# Altium integrated library Analog Devices Data Converters Digital-to-Analog Converters.IntLib: 2231 symbols (part 131 of 181)
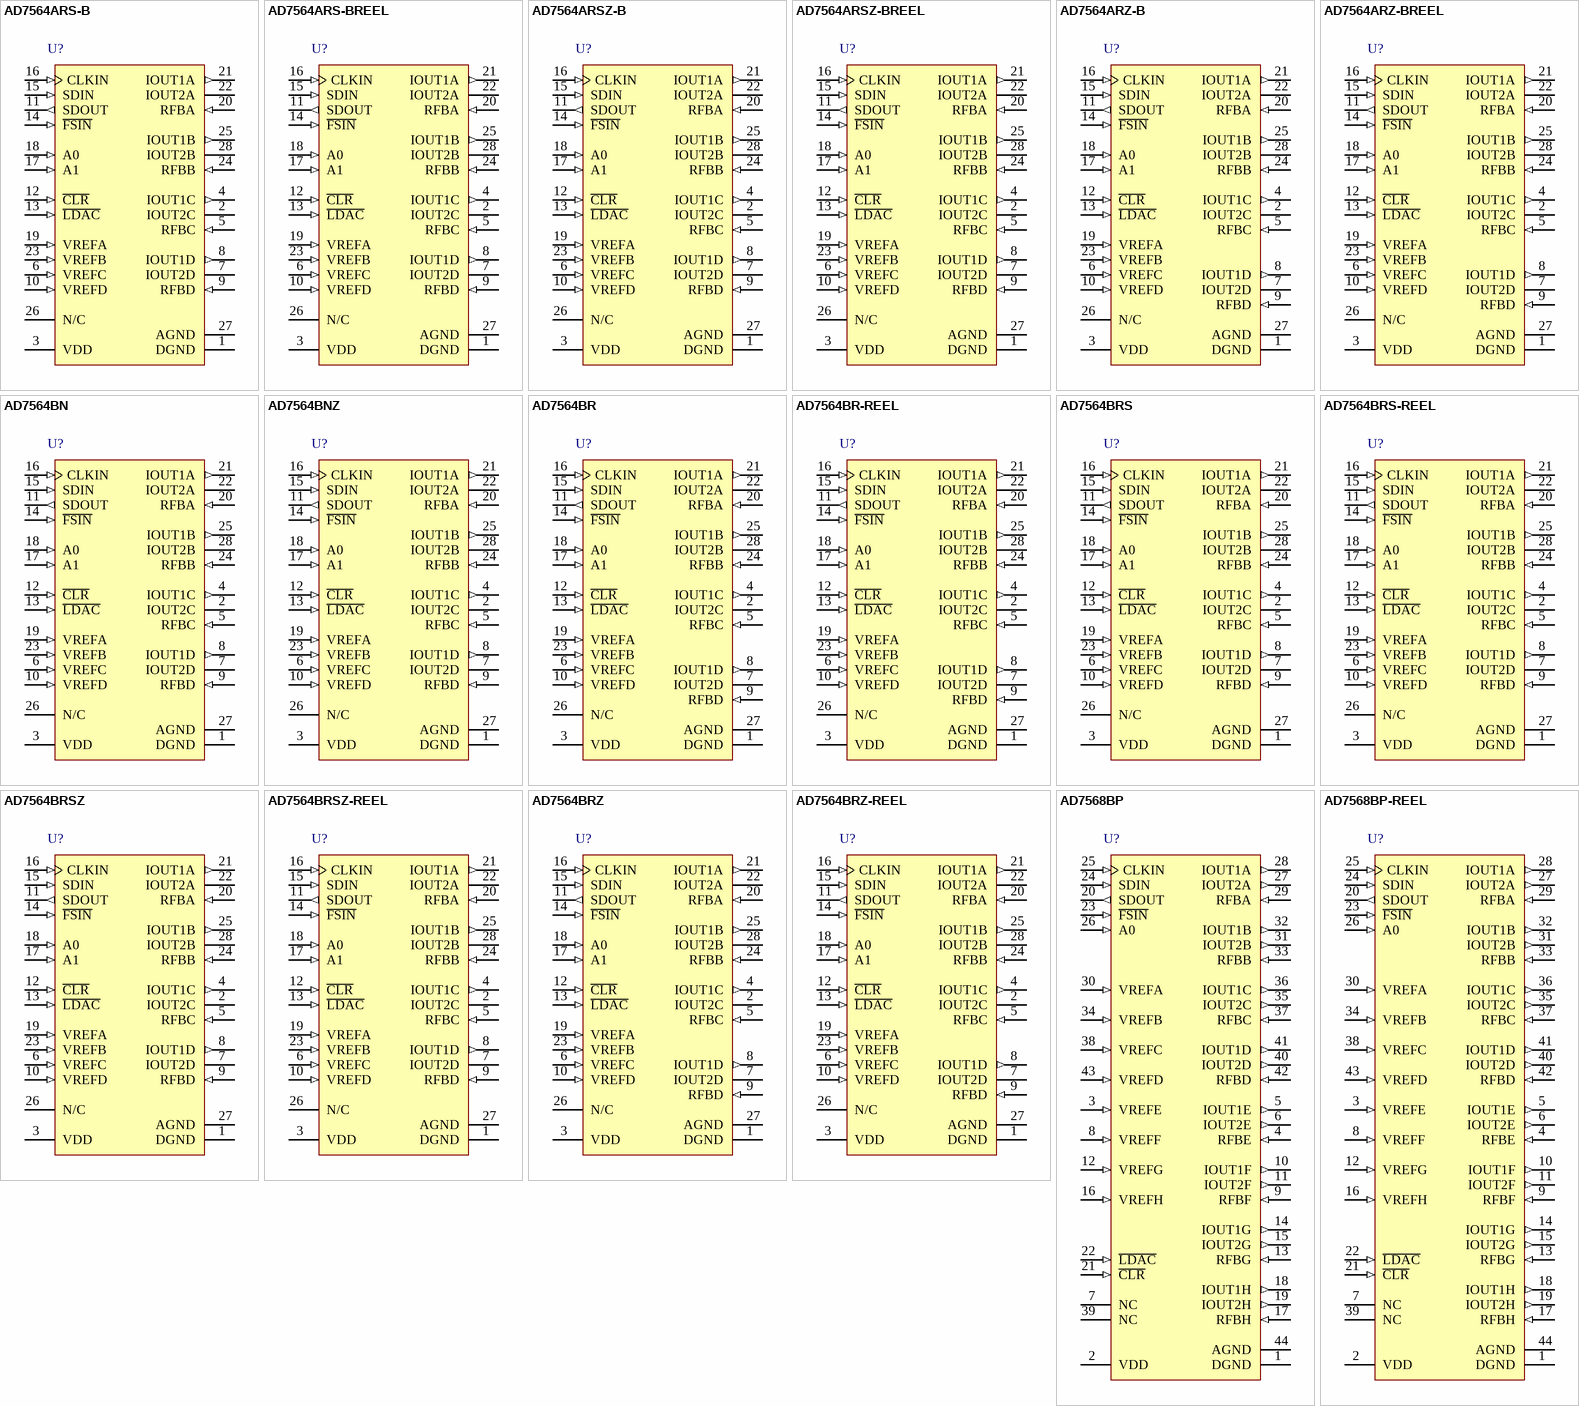
[diagram p244: symbols AD7564ARS-B to AD7568BP-REEL]

## AD7564BRZ
designator U?
Quad 12-Bit Low Power Digital-to-Analog Converter, 3.3 V / 5 V, 0 to 70 degC, RW-28, Pb-Free, Tube; Generic Part Number: AD7564; Manufacturer: Analog Devices; PartNumber: AD7564BRZ; # DAC Outputs: 4; Max V+: 5.5V; Op Pwr Diss: 50µW; Resolution (Bits): 12; Settling Time: 550ns; Single Supply: Yes; DatasheetVersion: Rev.B; PackageVersion: 060706-A; PackageReference: RW-28; PackageDescription: 28-Lead Standard Small Outline Package [SOIC_W]; Supplier 1: Digi-Key; Supplier Part Number 1: AD7564BRZ-ND; Supplier 2: Newark; Supplier Part Number 2: 59K5052; Supplier 3: Mouser; Supplier Part Number 3: 584-AD7564BRZ; Packing: Tube; RoHS: Y; Mounting Technology: Surface Mount; Code_JEDEC: MS-013-AE; ComponentLink1Description: Manufacturer URL; ComponentLink1URL: http://www.analog.com/en/index.html; ComponentLink2Description: Datasheet; ComponentLink2URL: http://www.analog.com/static/imported-files/data_sheets/AD7564.pdf; ComponentLink3Description: Product URL; ComponentLink3URL: http://www.analog.com/en/digital-to-analog-converters/da-converters/ad7564/products/product.html
footprint RW-28_N (SOIC, 28-Leads, Body 17.9x7.5mm, Pitch 1.27mm, IPC Medium Density)
footprint RW-28_L (SOIC, 28-Leads, Body 17.9x7.5mm, Pitch 1.27mm, IPC High Density)
footprint RW-28_M (SOIC, 28-Leads, Body 17.9x7.5mm, Pitch 1.27mm, IPC Low Density)
pins: 1 DGND (power) "Digital Ground.", 2 IOUT2C "IOUT2 terminal for DAC C. This should normally connect to the signal ground of the system.", 3 VDD (power) "Positive power supply. This is +5 V +/- 5%.", 4 IOUT1C (out) "IOUT1 terminal for DAC C.", 5 RFBC (in) "Feedback resistor for DAC C.", 6 VREFC (in) "DAC C reference input.", 7 IOUT2D "IOUT2 terminal for DAC D. This should normally connect to the signal ground of the system.", 8 IOUT1D (out) "IOUT1 terminal for DAC D.", 9 RFBD (in) "Feedback resistor for DAC D.", 10 VREFD (in) "DAC D reference input.", 11 SDOUT (out) "This shift register output allows multiple devices to be connected in a daisy chain configuration.", 12 ~{CLR} (in) "Asynchronous C\L\R\ input. When this input is taken low, all DAC latches are loaded with all 0s.", 13 ~{LDAC} (in) "Asynchronous L\D\A\C\ input. When this input is taken low, all DAC latches are simultaneously updated with the contents of the input latches.", 14 ~{FSIN} (in) "Level-triggered control input (active low). This is the frame synchronization signal for the input data. When F\S\I\N\ goes low, it enables the input shift register, and data is transferred on the falling edges of CLKIN. If (See Datasheet)", 15 SDIN (in) "Serial data input. The device accepts a 16-bit word. DB0 and DB1 are DAC select bits. DB2 and DB3 are device address bits. DB4 to DB15 contain the 12-bit data to be loaded to the selected DAC.", 16 CLKIN (in) "Clock Input. Data is clocked into the input shift register on the falling edges of CLKIN. Add a pull-down resistor on the clock line to avoid timing issues.", 17 A1 (in) "Device address pin. This input in association with A0 gives the device an address. If DB2 and DB3 of the serial input stream do not correspond to this address, the data which follows is ignored and not loaded to any input (See Datasheet)", 18 A0 (in) "Device address pin. This input in association with A1 gives the device an address.", 19 VREFA (in) "DAC A reference input.", 20 RFBA (in) "Feedback resistor for DAC A.", 21 IOUT1A (out) "IOUT1 terminal for DAC A.", 22 IOUT2A "IOUT2 terminal for DAC A. This should normally connect to the signal ground of the system.", 23 VREFB (in) "DAC B reference input.", 24 RFBB (in) "Feedback resistor for DAC B.", 25 IOUT1B (out) "IOUT1 terminal for DAC B.", 26 N/C "No Connect pin.", 27 AGND (power) "This pin connects to the back gates of the current steering switches. It should be connected to the signal ground of the system.", 28 IOUT2B "IOUT2 terminal for DAC B. This should normally connect to the signal ground of the system."

## AD7564BRZ-REEL
designator U?
Quad 12-Bit Low Power Digital-to-Analog Converter, 3.3 V / 5 V, 0 to 70 degC, RW-28, Pb-Free, Reel; Generic Part Number: AD7564; Manufacturer: Analog Devices; PartNumber: AD7564BRZ-REEL; # DAC Outputs: 4; Max V+: 5.5V; Op Pwr Diss: 50µW; Resolution (Bits): 12; Settling Time: 550ns; Single Supply: Yes; DatasheetVersion: Rev.B; PackageVersion: 060706-A; PackageReference: RW-28; PackageDescription: 28-Lead Standard Small Outline Package [SOIC_W]; Supplier 1: Digi-Key; Supplier Part Number 1: AD7564BRZ-REEL-ND; Supplier 2: Mouser; Supplier Part Number 2: 584-AD7564BRZ-R; Packing: Reel; RoHS: Y; Mounting Technology: Surface Mount; Code_JEDEC: MS-013-AE; ComponentLink1Description: Manufacturer URL; ComponentLink1URL: http://www.analog.com/en/index.html; ComponentLink2Description: Datasheet; ComponentLink2URL: http://www.analog.com/static/imported-files/data_sheets/AD7564.pdf; ComponentLink3Description: Product URL; ComponentLink3URL: http://www.analog.com/en/digital-to-analog-converters/da-converters/ad7564/products/product.html
footprint RW-28_N (SOIC, 28-Leads, Body 17.9x7.5mm, Pitch 1.27mm, IPC Medium Density)
footprint RW-28_L (SOIC, 28-Leads, Body 17.9x7.5mm, Pitch 1.27mm, IPC High Density)
footprint RW-28_M (SOIC, 28-Leads, Body 17.9x7.5mm, Pitch 1.27mm, IPC Low Density)
pins: 1 DGND (power) "Digital Ground.", 2 IOUT2C "IOUT2 terminal for DAC C. This should normally connect to the signal ground of the system.", 3 VDD (power) "Positive power supply. This is +5 V +/- 5%.", 4 IOUT1C (out) "IOUT1 terminal for DAC C.", 5 RFBC (in) "Feedback resistor for DAC C.", 6 VREFC (in) "DAC C reference input.", 7 IOUT2D "IOUT2 terminal for DAC D. This should normally connect to the signal ground of the system.", 8 IOUT1D (out) "IOUT1 terminal for DAC D.", 9 RFBD (in) "Feedback resistor for DAC D.", 10 VREFD (in) "DAC D reference input.", 11 SDOUT (out) "This shift register output allows multiple devices to be connected in a daisy chain configuration.", 12 ~{CLR} (in) "Asynchronous C\L\R\ input. When this input is taken low, all DAC latches are loaded with all 0s.", 13 ~{LDAC} (in) "Asynchronous L\D\A\C\ input. When this input is taken low, all DAC latches are simultaneously updated with the contents of the input latches.", 14 ~{FSIN} (in) "Level-triggered control input (active low). This is the frame synchronization signal for the input data. When F\S\I\N\ goes low, it enables the input shift register, and data is transferred on the falling edges of CLKIN. If (See Datasheet)", 15 SDIN (in) "Serial data input. The device accepts a 16-bit word. DB0 and DB1 are DAC select bits. DB2 and DB3 are device address bits. DB4 to DB15 contain the 12-bit data to be loaded to the selected DAC.", 16 CLKIN (in) "Clock Input. Data is clocked into the input shift register on the falling edges of CLKIN. Add a pull-down resistor on the clock line to avoid timing issues.", 17 A1 (in) "Device address pin. This input in association with A0 gives the device an address. If DB2 and DB3 of the serial input stream do not correspond to this address, the data which follows is ignored and not loaded to any input (See Datasheet)", 18 A0 (in) "Device address pin. This input in association with A1 gives the device an address.", 19 VREFA (in) "DAC A reference input.", 20 RFBA (in) "Feedback resistor for DAC A.", 21 IOUT1A (out) "IOUT1 terminal for DAC A.", 22 IOUT2A "IOUT2 terminal for DAC A. This should normally connect to the signal ground of the system.", 23 VREFB (in) "DAC B reference input.", 24 RFBB (in) "Feedback resistor for DAC B.", 25 IOUT1B (out) "IOUT1 terminal for DAC B.", 26 N/C "No Connect pin.", 27 AGND (power) "This pin connects to the back gates of the current steering switches. It should be connected to the signal ground of the system.", 28 IOUT2B "IOUT2 terminal for DAC B. This should normally connect to the signal ground of the system."

## AD7568BP
designator U?
Octal 12-Bit LC2MOS Digital-to-Analog Converter, -40 to +85 degC, P-44A, Tube; Generic Part Number: AD7568; Manufacturer: Analog Devices; PartNumber: AD7568BP; # DAC Outputs: 8; Max V+: 5.25V; Op Pwr Diss: 17.5mW; Resolution (Bits): 12; Settling Time: 500ns; Single Supply: Yes; DatasheetVersion: Rev.C; PackageVersion: 2003; PackageReference: P-44A; PackageDescription: 44-Lead Plastic Leaded Chip Carrier [PLCC]; Supplier 1: Digi-Key; Supplier Part Number 1: AD7568BP-ND; Supplier 2: Mouser; Supplier Part Number 2: 584-AD7568BP; Packing: Tube; RoHS: N; Mounting Technology: Surface Mount; Code_JEDEC: MO-047-AC; Code_IPC: PLCC-44; ComponentLink1Description: Manufacturer URL; ComponentLink1URL: http://www.analog.com/en/index.html; ComponentLink2Description: Datasheet; ComponentLink2URL: http://www.analog.com/static/imported-files/data_sheets/AD7568.pdf; ComponentLink3Description: Package Specification; ComponentLink3URL: http://www.analog.com/static/imported-files/packages/533756178731793364534243243792136664964P44A.pdf; ComponentLink4Description: Product URL; ComponentLink4URL: http://www.analog.com/en/digital-to-analog-converters/da-converters/ad7568/products/product.html
footprint P-44A_N (Leaded Chip Carrier, 44-Leads, Body 16.6x16.6mm, Pitch 1.27mm, IPC Medium Density)
footprint P-44A_L (Leaded Chip Carrier, 44-Leads, Body 16.6x16.6mm, Pitch 1.27mm, IPC High Density)
footprint P-44A_M (Leaded Chip Carrier, 44-Leads, Body 16.6x16.6mm, Pitch 1.27mm, IPC Low Density)
pins: 1 DGND (power) "Digital Ground.", 2 VDD (power) "Positive Power Supply. This is 5 V +/- 5%.", 3 VREFE (in) "DAC Reference Input.", 4 RFBE (in) "DAC Feedback Resistor Pin.", 5 IOUT1E (out) "DAC Current Output Terminal.", 6 IOUT2E (out) "DAC Current Output Terminal.", 7 NC "No Connect.", 8 VREFF (in) "DAC Reference Input.", 9 RFBF (in) "DAC Feedback Resistor Pin.", 10 IOUT1F (out) "DAC Current Output Terminal.", 11 IOUT2F (out) "DAC Current Output Terminal.", 12 VREFG (in) "DAC Reference Input.", 13 RFBG (in) "DAC Feedback Resistor Pin.", 14 IOUT1G (out) "DAC Current Output Terminal.", 15 IOUT2G (out) "DAC Current Output Terminal.", 16 VREFH (in) "DAC Reference Input.", 17 RFBH (in) "DAC Feedback Resistor Pin.", 18 IOUT1H (out) "DAC Current Output Terminal.", 19 IOUT2H (out) "DAC Current Output Terminal.", 20 SDOUT (out) "This shift register output allows multiple devices to be connected in a daisy-chain configuration.", 21 ~{CLR} (in) "Asynchronous C\L\R\ Input. When this input is taken low, all DAC latch outputs go to zero.", 22 ~{LDAC} (in) "Asynchronous L\D\A\C\ Input. When this input is taken low, all DAC latches are simultaneously updated with the contents of the input latches.", 23 ~{FSIN} (in) "Level-Triggered Control Input (Active Low). This is the frame synchronization signal for the input data. When F\S\I\N\ goes low, it enables the input shift register, and data is transferred on the falling edges of CLKIN. If (See Datasheet)", 24 SDIN (in) "Serial Data Input. The device accepts a 16-bit word. The first bit (DB15) is the DAC MSB, with the remaining bits following. Next comes the device address bit, A0. If this does not correspond to the logic level on Pin A0, (See Datasheet)", 25 CLKIN (in) "Clock Input. Data is clocked into the input shift register on the falling edges of CLKIN. Add a pull-down resistor on the clock line to avoid timing issues.", 26 A0 (in) "Device Address Pin. This input gives the device an address. If DB3 of the serial input stream does not correspond to this, the data that follows is ignored and not loaded to any input latch. However, it will appear at SDOUT (See Datasheet)", 27 IOUT2A (out) "DAC Current Output Terminal.", 28 IOUT1A (out) "DAC Current Output Terminal.", 29 RFBA (in) "DAC Feedback Resistor Pin.", 30 VREFA (in) "DAC Reference Input.", 31 IOUT2B (out) "DAC Current Output Terminal.", 32 IOUT1B (out) "DAC Current Output Terminal.", 33 RFBB (in) "DAC Feedback Resistor Pin.", 34 VREFB (in) "DAC Reference Input.", 35 IOUT2C (out) "DAC Current Output Terminal.", 36 IOUT1C (out) "DAC Current Output Terminal.", 37 RFBC (in) "DAC Feedback Resistor Pin.", 38 VREFC (in) "DAC Reference Input.", 39 NC "No Connect.", 40 IOUT2D (out) "DAC Current Output Terminal.", 41 IOUT1D (out) "DAC Current Output Terminal.", 42 RFBD (in) "DAC Feedback Resistor Pin.", 43 VREFD (in) "DAC Reference Input.", 44 AGND (power) "Analog Ground."

## AD7568BP-REEL
designator U?
Octal 12-Bit LC2MOS Digital-to-Analog Converter, -40 to +85 degC, P-44A, Reel; Generic Part Number: AD7568; Manufacturer: Analog Devices; PartNumber: AD7568BP-REEL; # DAC Outputs: 8; Max V+: 5.25V; Op Pwr Diss: 17.5mW; Resolution (Bits): 12; Settling Time: 500ns; Single Supply: Yes; DatasheetVersion: Rev.C; PackageVersion: 2003; PackageReference: P-44A; PackageDescription: 44-Lead Plastic Leaded Chip Carrier [PLCC]; Supplier 1: Mouser; Supplier Part Number 1: N/A; Packing: Reel; RoHS: N; Mounting Technology: Surface Mount; Code_JEDEC: MO-047-AC; Code_IPC: PLCC-44; ComponentLink1Description: Manufacturer URL; ComponentLink1URL: http://www.analog.com/en/index.html; ComponentLink2Description: Datasheet; ComponentLink2URL: http://www.analog.com/static/imported-files/data_sheets/AD7568.pdf; ComponentLink3Description: Package Specification; ComponentLink3URL: http://www.analog.com/static/imported-files/packages/533756178731793364534243243792136664964P44A.pdf; ComponentLink4Description: Product URL; ComponentLink4URL: http://www.analog.com/en/digital-to-analog-converters/da-converters/ad7568/products/product.html
footprint P-44A_N (Leaded Chip Carrier, 44-Leads, Body 16.6x16.6mm, Pitch 1.27mm, IPC Medium Density)
footprint P-44A_L (Leaded Chip Carrier, 44-Leads, Body 16.6x16.6mm, Pitch 1.27mm, IPC High Density)
footprint P-44A_M (Leaded Chip Carrier, 44-Leads, Body 16.6x16.6mm, Pitch 1.27mm, IPC Low Density)
pins: 1 DGND (power) "Digital Ground.", 2 VDD (power) "Positive Power Supply. This is 5 V +/- 5%.", 3 VREFE (in) "DAC Reference Input.", 4 RFBE (in) "DAC Feedback Resistor Pin.", 5 IOUT1E (out) "DAC Current Output Terminal.", 6 IOUT2E (out) "DAC Current Output Terminal.", 7 NC "No Connect.", 8 VREFF (in) "DAC Reference Input.", 9 RFBF (in) "DAC Feedback Resistor Pin.", 10 IOUT1F (out) "DAC Current Output Terminal.", 11 IOUT2F (out) "DAC Current Output Terminal.", 12 VREFG (in) "DAC Reference Input.", 13 RFBG (in) "DAC Feedback Resistor Pin.", 14 IOUT1G (out) "DAC Current Output Terminal.", 15 IOUT2G (out) "DAC Current Output Terminal.", 16 VREFH (in) "DAC Reference Input.", 17 RFBH (in) "DAC Feedback Resistor Pin.", 18 IOUT1H (out) "DAC Current Output Terminal.", 19 IOUT2H (out) "DAC Current Output Terminal.", 20 SDOUT (out) "This shift register output allows multiple devices to be connected in a daisy-chain configuration.", 21 ~{CLR} (in) "Asynchronous C\L\R\ Input. When this input is taken low, all DAC latch outputs go to zero.", 22 ~{LDAC} (in) "Asynchronous L\D\A\C\ Input. When this input is taken low, all DAC latches are simultaneously updated with the contents of the input latches.", 23 ~{FSIN} (in) "Level-Triggered Control Input (Active Low). This is the frame synchronization signal for the input data. When F\S\I\N\ goes low, it enables the input shift register, and data is transferred on the falling edges of CLKIN. If (See Datasheet)", 24 SDIN (in) "Serial Data Input. The device accepts a 16-bit word. The first bit (DB15) is the DAC MSB, with the remaining bits following. Next comes the device address bit, A0. If this does not correspond to the logic level on Pin A0, (See Datasheet)", 25 CLKIN (in) "Clock Input. Data is clocked into the input shift register on the falling edges of CLKIN. Add a pull-down resistor on the clock line to avoid timing issues.", 26 A0 (in) "Device Address Pin. This input gives the device an address. If DB3 of the serial input stream does not correspond to this, the data that follows is ignored and not loaded to any input latch. However, it will appear at SDOUT (See Datasheet)", 27 IOUT2A (out) "DAC Current Output Terminal.", 28 IOUT1A (out) "DAC Current Output Terminal.", 29 RFBA (in) "DAC Feedback Resistor Pin.", 30 VREFA (in) "DAC Reference Input.", 31 IOUT2B (out) "DAC Current Output Terminal.", 32 IOUT1B (out) "DAC Current Output Terminal.", 33 RFBB (in) "DAC Feedback Resistor Pin.", 34 VREFB (in) "DAC Reference Input.", 35 IOUT2C (out) "DAC Current Output Terminal.", 36 IOUT1C (out) "DAC Current Output Terminal.", 37 RFBC (in) "DAC Feedback Resistor Pin.", 38 VREFC (in) "DAC Reference Input.", 39 NC "No Connect.", 40 IOUT2D (out) "DAC Current Output Terminal.", 41 IOUT1D (out) "DAC Current Output Terminal.", 42 RFBD (in) "DAC Feedback Resistor Pin.", 43 VREFD (in) "DAC Reference Input.", 44 AGND (power) "Analog Ground."

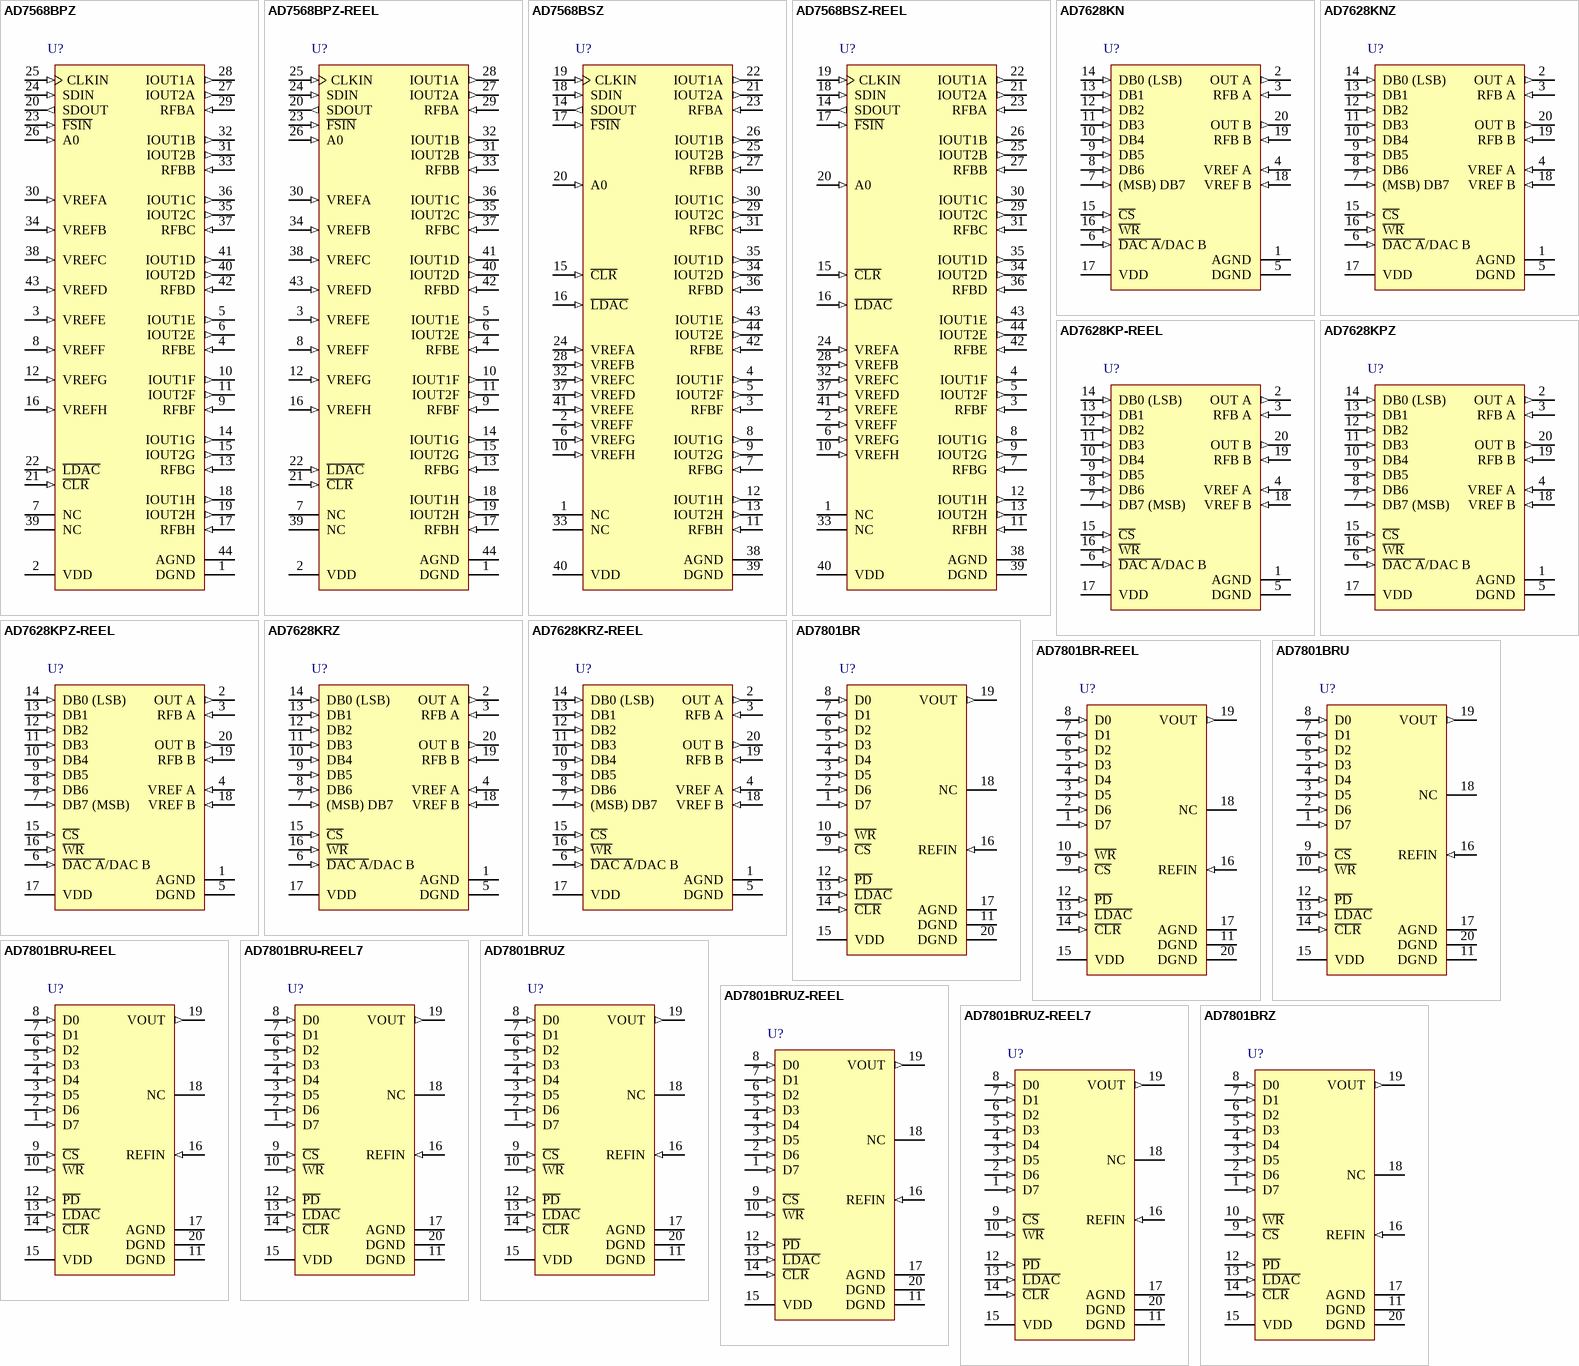
[diagram p72: symbols AD7568BPZ to AD7801BRZ]

## AD7568BPZ
designator U?
Octal 12-Bit LC2MOS Digital-to-Analog Converter, -40 to +85 degC, P-44A, Pb-Free, Tube; Generic Part Number: AD7568; Manufacturer: Analog Devices; PartNumber: AD7568BPZ; # DAC Outputs: 8; Max V+: 5.25V; Op Pwr Diss: 17.5mW; Resolution (Bits): 12; Settling Time: 500ns; Single Supply: Yes; DatasheetVersion: Rev.C; PackageVersion: 2003; PackageReference: P-44A; PackageDescription: 44-Lead Plastic Leaded Chip Carrier [PLCC]; Supplier 1: Digi-Key; Supplier Part Number 1: AD7568BPZ-ND; Supplier 2: Newark; Supplier Part Number 2: 59K5054; Supplier 3: Mouser; Supplier Part Number 3: 584-AD7568BPZ; Packing: Tube; RoHS: Y; Mounting Technology: Surface Mount; Code_JEDEC: MO-047-AC; Code_IPC: PLCC-44; ComponentLink1Description: Manufacturer URL; ComponentLink1URL: http://www.analog.com/en/index.html; ComponentLink2Description: Datasheet; ComponentLink2URL: http://www.analog.com/static/imported-files/data_sheets/AD7568.pdf; ComponentLink3Description: Package Specification; ComponentLink3URL: http://www.analog.com/static/imported-files/packages/533756178731793364534243243792136664964P44A.pdf; ComponentLink4Description: Product URL; ComponentLink4URL: http://www.analog.com/en/digital-to-analog-converters/da-converters/ad7568/products/product.html
footprint P-44A_N (Leaded Chip Carrier, 44-Leads, Body 16.6x16.6mm, Pitch 1.27mm, IPC Medium Density)
footprint P-44A_L (Leaded Chip Carrier, 44-Leads, Body 16.6x16.6mm, Pitch 1.27mm, IPC High Density)
footprint P-44A_M (Leaded Chip Carrier, 44-Leads, Body 16.6x16.6mm, Pitch 1.27mm, IPC Low Density)
pins: 1 DGND (power) "Digital Ground.", 2 VDD (power) "Positive Power Supply. This is 5 V +/- 5%.", 3 VREFE (in) "DAC Reference Input.", 4 RFBE (in) "DAC Feedback Resistor Pin.", 5 IOUT1E (out) "DAC Current Output Terminal.", 6 IOUT2E (out) "DAC Current Output Terminal.", 7 NC "No Connect.", 8 VREFF (in) "DAC Reference Input.", 9 RFBF (in) "DAC Feedback Resistor Pin.", 10 IOUT1F (out) "DAC Current Output Terminal.", 11 IOUT2F (out) "DAC Current Output Terminal.", 12 VREFG (in) "DAC Reference Input.", 13 RFBG (in) "DAC Feedback Resistor Pin.", 14 IOUT1G (out) "DAC Current Output Terminal.", 15 IOUT2G (out) "DAC Current Output Terminal.", 16 VREFH (in) "DAC Reference Input.", 17 RFBH (in) "DAC Feedback Resistor Pin.", 18 IOUT1H (out) "DAC Current Output Terminal.", 19 IOUT2H (out) "DAC Current Output Terminal.", 20 SDOUT (out) "This shift register output allows multiple devices to be connected in a daisy-chain configuration.", 21 ~{CLR} (in) "Asynchronous C\L\R\ Input. When this input is taken low, all DAC latch outputs go to zero.", 22 ~{LDAC} (in) "Asynchronous L\D\A\C\ Input. When this input is taken low, all DAC latches are simultaneously updated with the contents of the input latches.", 23 ~{FSIN} (in) "Level-Triggered Control Input (Active Low). This is the frame synchronization signal for the input data. When F\S\I\N\ goes low, it enables the input shift register, and data is transferred on the falling edges of CLKIN. If (See Datasheet)", 24 SDIN (in) "Serial Data Input. The device accepts a 16-bit word. The first bit (DB15) is the DAC MSB, with the remaining bits following. Next comes the device address bit, A0. If this does not correspond to the logic level on Pin A0, (See Datasheet)", 25 CLKIN (in) "Clock Input. Data is clocked into the input shift register on the falling edges of CLKIN. Add a pull-down resistor on the clock line to avoid timing issues.", 26 A0 (in) "Device Address Pin. This input gives the device an address. If DB3 of the serial input stream does not correspond to this, the data that follows is ignored and not loaded to any input latch. However, it will appear at SDOUT (See Datasheet)", 27 IOUT2A (out) "DAC Current Output Terminal.", 28 IOUT1A (out) "DAC Current Output Terminal.", 29 RFBA (in) "DAC Feedback Resistor Pin.", 30 VREFA (in) "DAC Reference Input.", 31 IOUT2B (out) "DAC Current Output Terminal.", 32 IOUT1B (out) "DAC Current Output Terminal.", 33 RFBB (in) "DAC Feedback Resistor Pin.", 34 VREFB (in) "DAC Reference Input.", 35 IOUT2C (out) "DAC Current Output Terminal.", 36 IOUT1C (out) "DAC Current Output Terminal.", 37 RFBC (in) "DAC Feedback Resistor Pin.", 38 VREFC (in) "DAC Reference Input.", 39 NC "No Connect.", 40 IOUT2D (out) "DAC Current Output Terminal.", 41 IOUT1D (out) "DAC Current Output Terminal.", 42 RFBD (in) "DAC Feedback Resistor Pin.", 43 VREFD (in) "DAC Reference Input.", 44 AGND (power) "Analog Ground."

## AD7568BPZ-REEL
designator U?
Octal 12-Bit LC2MOS Digital-to-Analog Converter, -40 to +85 degC, P-44A, Pb-Free, Reel; Generic Part Number: AD7568; Manufacturer: Analog Devices; PartNumber: AD7568BPZ-REEL; # DAC Outputs: 8; Max V+: 5.25V; Op Pwr Diss: 17.5mW; Resolution (Bits): 12; Settling Time: 500ns; Single Supply: Yes; DatasheetVersion: Rev.C; PackageVersion: 2003; PackageReference: P-44A; PackageDescription: 44-Lead Plastic Leaded Chip Carrier [PLCC]; Supplier 1: Digi-Key; Supplier Part Number 1: AD7568BPZ-REEL-ND; Supplier 2: Newark; Supplier Part Number 2: 59K5055; Supplier 3: Mouser; Supplier Part Number 3: 584-AD7568BPZ-R; Packing: Reel; RoHS: Y; Mounting Technology: Surface Mount; Code_JEDEC: MO-047-AC; Code_IPC: PLCC-44; ComponentLink1Description: Manufacturer URL; ComponentLink1URL: http://www.analog.com/en/index.html; ComponentLink2Description: Datasheet; ComponentLink2URL: http://www.analog.com/static/imported-files/data_sheets/AD7568.pdf; ComponentLink3Description: Package Specification; ComponentLink3URL: http://www.analog.com/static/imported-files/packages/533756178731793364534243243792136664964P44A.pdf; ComponentLink4Description: Product URL; ComponentLink4URL: http://www.analog.com/en/digital-to-analog-converters/da-converters/ad7568/products/product.html
footprint P-44A_N (Leaded Chip Carrier, 44-Leads, Body 16.6x16.6mm, Pitch 1.27mm, IPC Medium Density)
footprint P-44A_L (Leaded Chip Carrier, 44-Leads, Body 16.6x16.6mm, Pitch 1.27mm, IPC High Density)
footprint P-44A_M (Leaded Chip Carrier, 44-Leads, Body 16.6x16.6mm, Pitch 1.27mm, IPC Low Density)
pins: 1 DGND (power) "Digital Ground.", 2 VDD (power) "Positive Power Supply. This is 5 V +/- 5%.", 3 VREFE (in) "DAC Reference Input.", 4 RFBE (in) "DAC Feedback Resistor Pin.", 5 IOUT1E (out) "DAC Current Output Terminal.", 6 IOUT2E (out) "DAC Current Output Terminal.", 7 NC "No Connect.", 8 VREFF (in) "DAC Reference Input.", 9 RFBF (in) "DAC Feedback Resistor Pin.", 10 IOUT1F (out) "DAC Current Output Terminal.", 11 IOUT2F (out) "DAC Current Output Terminal.", 12 VREFG (in) "DAC Reference Input.", 13 RFBG (in) "DAC Feedback Resistor Pin.", 14 IOUT1G (out) "DAC Current Output Terminal.", 15 IOUT2G (out) "DAC Current Output Terminal.", 16 VREFH (in) "DAC Reference Input.", 17 RFBH (in) "DAC Feedback Resistor Pin.", 18 IOUT1H (out) "DAC Current Output Terminal.", 19 IOUT2H (out) "DAC Current Output Terminal.", 20 SDOUT (out) "This shift register output allows multiple devices to be connected in a daisy-chain configuration.", 21 ~{CLR} (in) "Asynchronous C\L\R\ Input. When this input is taken low, all DAC latch outputs go to zero.", 22 ~{LDAC} (in) "Asynchronous L\D\A\C\ Input. When this input is taken low, all DAC latches are simultaneously updated with the contents of the input latches.", 23 ~{FSIN} (in) "Level-Triggered Control Input (Active Low). This is the frame synchronization signal for the input data. When F\S\I\N\ goes low, it enables the input shift register, and data is transferred on the falling edges of CLKIN. If (See Datasheet)", 24 SDIN (in) "Serial Data Input. The device accepts a 16-bit word. The first bit (DB15) is the DAC MSB, with the remaining bits following. Next comes the device address bit, A0. If this does not correspond to the logic level on Pin A0, (See Datasheet)", 25 CLKIN (in) "Clock Input. Data is clocked into the input shift register on the falling edges of CLKIN. Add a pull-down resistor on the clock line to avoid timing issues.", 26 A0 (in) "Device Address Pin. This input gives the device an address. If DB3 of the serial input stream does not correspond to this, the data that follows is ignored and not loaded to any input latch. However, it will appear at SDOUT (See Datasheet)", 27 IOUT2A (out) "DAC Current Output Terminal.", 28 IOUT1A (out) "DAC Current Output Terminal.", 29 RFBA (in) "DAC Feedback Resistor Pin.", 30 VREFA (in) "DAC Reference Input.", 31 IOUT2B (out) "DAC Current Output Terminal.", 32 IOUT1B (out) "DAC Current Output Terminal.", 33 RFBB (in) "DAC Feedback Resistor Pin.", 34 VREFB (in) "DAC Reference Input.", 35 IOUT2C (out) "DAC Current Output Terminal.", 36 IOUT1C (out) "DAC Current Output Terminal.", 37 RFBC (in) "DAC Feedback Resistor Pin.", 38 VREFC (in) "DAC Reference Input.", 39 NC "No Connect.", 40 IOUT2D (out) "DAC Current Output Terminal.", 41 IOUT1D (out) "DAC Current Output Terminal.", 42 RFBD (in) "DAC Feedback Resistor Pin.", 43 VREFD (in) "DAC Reference Input.", 44 AGND (power) "Analog Ground."

## AD7568BSZ
designator U?
Octal 12-Bit LC2MOS Digital-to-Analog Converter, 0 to +70 degC, S-44-2, Pb-Free, Tray; Generic Part Number: AD7568; Manufacturer: Analog Devices; PartNumber: AD7568BSZ; # DAC Outputs: 8; Max V+: 5.25V; Op Pwr Diss: 17.5mW; Resolution (Bits): 12; Settling Time: 500ns; Single Supply: Yes; DatasheetVersion: Rev.C; PackageVersion: 041807-A; PackageReference: S-44-2; PackageDescription: 44-Lead Metric Quad Flat Package [MQFP]; Supplier 1: Digi-Key; Supplier Part Number 1: AD7568BSZ-ND; Supplier 2: Farnell; Supplier Part Number 2: 1311330; Supplier 3: Newark; Supplier Part Number 3: 59K5056; Supplier 4: Mouser; Supplier Part Number 4: 584-AD7568BSZ; Packing: Tray; RoHS: Y; Mounting Technology: Surface Mount; Code_JEDEC: MO-122-AA-1; ComponentLink1Description: Manufacturer URL; ComponentLink1URL: http://www.analog.com/en/index.html; ComponentLink2Description: Datasheet; ComponentLink2URL: http://www.analog.com/static/imported-files/data_sheets/AD7568.pdf; ComponentLink3Description: Package Specification; ComponentLink3URL: http://www.analog.com/static/imported-files/packages/209183S_44_2.pdf; ComponentLink4Description: Product URL; ComponentLink4URL: http://www.analog.com/en/digital-to-analog-converters/da-converters/ad7568/products/product.html
footprint S-44-2_N (QFP, 44-Leads, Body 10x10mm, Pitch 0.8mm, IPC Medium Density)
footprint S-44-2_L (QFP, 44-Leads, Body 10x10mm, Pitch 0.8mm, IPC High Density)
footprint S-44-2_M (QFP, 44-Leads, Body 10x10mm, Pitch 0.8mm, IPC Low Density)
pins: 1 NC "No connection", 2 VREFF (in) "DAC Reference Input", 3 RFBF (in) "DAC Feedback Resistor Pin", 4 IOUT1F (out) "DAC Current Output Terminal", 5 IOUT2F (out) "DAC Current Output Terminal", 6 VREFG (in) "DAC Reference Input", 7 RFBG (in) "DAC Feedback Resistor Pin", 8 IOUT1G (out) "DAC Current Output Terminal", 9 IOUT2G (out) "DAC Current Output Terminal", 10 VREFH (in) "DAC Reference Input", 11 RFBH (in) "DAC Feedback Resistor Pin", 12 IOUT1H (out) "DAC Current Output Terminal", 13 IOUT2H (out) "DAC Current Output Terminal", 14 SDOUT (out) "This shift register output allows multiple devices to be connected in a daisy-chain configuration.", 15 ~{CLR} (in) "Asynchronous C\L\R\ Input. When this input is taken low, all DAC latch outputs go to zero.", 16 ~{LDAC} (in) "Asynchronous L\D\A\C\ Input. When this input is taken low, all DAC latches are simultaneously updated with the contents of the input latches.", 17 ~{FSIN} (in) "Level-Triggered Control Input (Active Low). This is the frame synchronization signal for the input data. When F\S\I\N\ goes low, it enables the input shift register, and data is transferred on the falling edges of CLKIN. If (See Datasheet)", 18 SDIN (in) "Serial Data Input. The device accepts a 16-bit word. The first bit (DB15) is the DAC MSB, with the remaining bits following. Next comes the device address bit, A0. If this does not correspond to the logic level on Pin A0, (See Datasheet)", 19 CLKIN (in) "Clock Input. Data is clocked into the input shift register on the falling edges of CLKIN. Add a pull-down resistor on the clock line to avoid timing issues.", 20 A0 (in) "Device Address Pin. This input gives the device an address. If DB3 of the serial input stream does not correspond to this, the data that follows is ignored and not loaded to any input latch. However, it will appear at SDOUT (See Datasheet)", 21 IOUT2A (out) "DAC Current Output Terminal", 22 IOUT1A (out) "DAC Current Output Terminal", 23 RFBA (in) "DAC Feedback Resistor Pin", 24 VREFA (in) "DAC Reference Input", 25 IOUT2B (out) "DAC Current Output Terminal", 26 IOUT1B (out) "DAC Current Output Terminal", 27 RFBB (in) "DAC Feedback Resistor Pin", 28 VREFB (in) "DAC Reference Input", 29 IOUT2C (out) "DAC Current Output Terminal", 30 IOUT1C (out) "DAC Current Output Terminal", 31 RFBC (in) "DAC Feedback Resistor Pin", 32 VREFC (in) "DAC Reference Input", 33 NC "No connection", 34 IOUT2D (out) "DAC Current Output Terminal", 35 IOUT1D (out) "DAC Current Output Terminal", 36 RFBD (in) "DAC Feedback Resistor Pin", 37 VREFD (in) "DAC Reference Input", 38 AGND (power) "This pin connects to the back gates of the current steering switches. It should be connected to the signal ground of the system.", 39 DGND (power) "Digital Ground.", 40 VDD (power) "Positive Power Supply. This is 5 V +/- 5%.", 41 VREFE (in) "DAC Reference Input", 42 RFBE (in) "DAC Feedback Resistor Pin", 43 IOUT1E (out) "DAC Current Output Terminal", 44 IOUT2E (out) "DAC Current Output Terminal"

## AD7568BSZ-REEL
designator U?
Octal 12-Bit LC2MOS Digital-to-Analog Converter, 0 to +70 degC, S-44-2, Pb-Free, Reel; Generic Part Number: AD7568; Manufacturer: Analog Devices; PartNumber: AD7568BSZ-REEL; # DAC Outputs: 8; Max V+: 5.25V; Op Pwr Diss: 17.5mW; Resolution (Bits): 12; Settling Time: 500ns; Single Supply: Yes; DatasheetVersion: Rev.C; PackageVersion: 041807-A; PackageReference: S-44-2; PackageDescription: 44-Lead Metric Quad Flat Package [MQFP]; Supplier 1: Digi-Key; Supplier Part Number 1: AD7568BSZ-REEL-ND; Supplier 2: Newark; Supplier Part Number 2: 59K5057; Supplier 3: Mouser; Supplier Part Number 3: 584-AD7568BSZ-R; Packing: Reel; RoHS: Y; Mounting Technology: Surface Mount; Code_JEDEC: MO-122-AA-1; ComponentLink1Description: Manufacturer URL; ComponentLink1URL: http://www.analog.com/en/index.html; ComponentLink2Description: Datasheet; ComponentLink2URL: http://www.analog.com/static/imported-files/data_sheets/AD7568.pdf; ComponentLink3Description: Package Specification; ComponentLink3URL: http://www.analog.com/static/imported-files/packages/209183S_44_2.pdf; ComponentLink4Description: Product URL; ComponentLink4URL: http://www.analog.com/en/digital-to-analog-converters/da-converters/ad7568/products/product.html
footprint S-44-2_N (QFP, 44-Leads, Body 10x10mm, Pitch 0.8mm, IPC Medium Density)
footprint S-44-2_L (QFP, 44-Leads, Body 10x10mm, Pitch 0.8mm, IPC High Density)
footprint S-44-2_M (QFP, 44-Leads, Body 10x10mm, Pitch 0.8mm, IPC Low Density)
pins: 1 NC "No connection", 2 VREFF (in) "DAC Reference Input", 3 RFBF (in) "DAC Feedback Resistor Pin", 4 IOUT1F (out) "DAC Current Output Terminal", 5 IOUT2F (out) "DAC Current Output Terminal", 6 VREFG (in) "DAC Reference Input", 7 RFBG (in) "DAC Feedback Resistor Pin", 8 IOUT1G (out) "DAC Current Output Terminal", 9 IOUT2G (out) "DAC Current Output Terminal", 10 VREFH (in) "DAC Reference Input", 11 RFBH (in) "DAC Feedback Resistor Pin", 12 IOUT1H (out) "DAC Current Output Terminal", 13 IOUT2H (out) "DAC Current Output Terminal", 14 SDOUT (out) "This shift register output allows multiple devices to be connected in a daisy-chain configuration.", 15 ~{CLR} (in) "Asynchronous C\L\R\ Input. When this input is taken low, all DAC latch outputs go to zero.", 16 ~{LDAC} (in) "Asynchronous L\D\A\C\ Input. When this input is taken low, all DAC latches are simultaneously updated with the contents of the input latches.", 17 ~{FSIN} (in) "Level-Triggered Control Input (Active Low). This is the frame synchronization signal for the input data. When F\S\I\N\ goes low, it enables the input shift register, and data is transferred on the falling edges of CLKIN. If (See Datasheet)", 18 SDIN (in) "Serial Data Input. The device accepts a 16-bit word. The first bit (DB15) is the DAC MSB, with the remaining bits following. Next comes the device address bit, A0. If this does not correspond to the logic level on Pin A0, (See Datasheet)", 19 CLKIN (in) "Clock Input. Data is clocked into the input shift register on the falling edges of CLKIN. Add a pull-down resistor on the clock line to avoid timing issues.", 20 A0 (in) "Device Address Pin. This input gives the device an address. If DB3 of the serial input stream does not correspond to this, the data that follows is ignored and not loaded to any input latch. However, it will appear at SDOUT (See Datasheet)", 21 IOUT2A (out) "DAC Current Output Terminal", 22 IOUT1A (out) "DAC Current Output Terminal", 23 RFBA (in) "DAC Feedback Resistor Pin", 24 VREFA (in) "DAC Reference Input", 25 IOUT2B (out) "DAC Current Output Terminal", 26 IOUT1B (out) "DAC Current Output Terminal", 27 RFBB (in) "DAC Feedback Resistor Pin", 28 VREFB (in) "DAC Reference Input", 29 IOUT2C (out) "DAC Current Output Terminal", 30 IOUT1C (out) "DAC Current Output Terminal", 31 RFBC (in) "DAC Feedback Resistor Pin", 32 VREFC (in) "DAC Reference Input", 33 NC "No connection", 34 IOUT2D (out) "DAC Current Output Terminal", 35 IOUT1D (out) "DAC Current Output Terminal", 36 RFBD (in) "DAC Feedback Resistor Pin", 37 VREFD (in) "DAC Reference Input", 38 AGND (power) "This pin connects to the back gates of the current steering switches. It should be connected to the signal ground of the system.", 39 DGND (power) "Digital Ground.", 40 VDD (power) "Positive Power Supply. This is 5 V +/- 5%.", 41 VREFE (in) "DAC Reference Input", 42 RFBE (in) "DAC Feedback Resistor Pin", 43 IOUT1E (out) "DAC Current Output Terminal", 44 IOUT2E (out) "DAC Current Output Terminal"

## AD7628KN
designator U?
Dual 8-Bit Buffered Multiplying CMOS Digital-to-Analog Converter, 0 to +70 degC, N-20, Tube; Generic Part Number: AD7628; Manufacturer: Analog Devices; PartNumber: AD7628KN; # DAC Outputs: 2; Max V+: 15.75V; Op Pwr Diss: 37.5mW; Resolution (Bits): 8; Settling Time: 350ns; Single Supply: Yes; DatasheetVersion: Rev.A; PackageVersion: 070706-A; PackageReference: N-20; PackageDescription: 20-Lead Plastic Dual In-Line Package [PDIP] Narrow Body; Supplier 1: Digi-Key; Supplier Part Number 1: AD7628KN-ND; Supplier 2: Mouser; Supplier Part Number 2: 584-AD7628KN; Packing: Tube; RoHS: N; Mounting Technology: Through Hole; Code_JEDEC: MS-001; ComponentLink1Description: Manufacturer URL; ComponentLink1URL: http://www.analog.com/en/index.html; ComponentLink2Description: Datasheet; ComponentLink2URL: http://www.analog.com/static/imported-files/data_sheets/AD7628.pdf; ComponentLink3Description: Package Specification; ComponentLink3URL: http://www.analog.com/static/imported-files/packages/50601349676519N_20.pdf; ComponentLink4Description: Product URL; ComponentLink4URL: http://www.analog.com/en/digital-to-analog-converters/da-converters/ad7628/products/product.html
footprint N-20 (DIP, 20-Leads, Row Spacing 7.62mm, Pitch 2.54mm, Body 25.9x6.6mm)
pins: 1 AGND (power), 2 OUT A (out), 3 RFB A (in), 4 VREF A (in), 5 DGND (power), 6 ~{DAC A}/DAC B (in), 7 (MSB) DB7 (in), 8 DB6 (in), 9 DB5 (in), 10 DB4 (in), 11 DB3 (in), 12 DB2 (in), 13 DB1 (in), 14 DB0 (LSB) (in), 15 ~{CS} (in), 16 ~{WR} (in), 17 VDD (power), 18 VREF B (in), 19 RFB B (in), 20 OUT B (out)

## AD7628KNZ
designator U?
Dual 8-Bit Buffered Multiplying CMOS Digital-to-Analog Converter, 0 to +70 degC, N-20, Pb-Free, Tube; Generic Part Number: AD7628; Manufacturer: Analog Devices; PartNumber: AD7628KNZ; # DAC Outputs: 2; Max V+: 15.75V; Op Pwr Diss: 37.5mW; Resolution (Bits): 8; Settling Time: 350ns; Single Supply: Yes; DatasheetVersion: Rev.A; PackageVersion: 070706-A; PackageReference: N-20; PackageDescription: 20-Lead Plastic Dual In-Line Package [PDIP] Narrow Body; Supplier 1: Digi-Key; Supplier Part Number 1: AD7628KNZ-ND; Supplier 2: Farnell; Supplier Part Number 2: 2305686; Supplier 3: Newark; Supplier Part Number 3: 59K5120; Supplier 4: Mouser; Supplier Part Number 4: 584-AD7628KNZ; Packing: Tube; RoHS: Y; Mounting Technology: Through Hole; Code_JEDEC: MS-001; ComponentLink1Description: Manufacturer URL; ComponentLink1URL: http://www.analog.com/en/index.html; ComponentLink2Description: Datasheet; ComponentLink2URL: http://www.analog.com/static/imported-files/data_sheets/AD7628.pdf; ComponentLink3Description: Package Specification; ComponentLink3URL: http://www.analog.com/static/imported-files/packages/50601349676519N_20.pdf; ComponentLink4Description: Product URL; ComponentLink4URL: http://www.analog.com/en/digital-to-analog-converters/da-converters/ad7628/products/product.html
footprint N-20 (DIP, 20-Leads, Row Spacing 7.62mm, Pitch 2.54mm, Body 25.9x6.6mm)
pins: 1 AGND (power), 2 OUT A (out), 3 RFB A (in), 4 VREF A (in), 5 DGND (power), 6 ~{DAC A}/DAC B (in), 7 (MSB) DB7 (in), 8 DB6 (in), 9 DB5 (in), 10 DB4 (in), 11 DB3 (in), 12 DB2 (in), 13 DB1 (in), 14 DB0 (LSB) (in), 15 ~{CS} (in), 16 ~{WR} (in), 17 VDD (power), 18 VREF B (in), 19 RFB B (in), 20 OUT B (out)

## AD7628KP-REEL
designator U?
Dual 8-Bit Buffered Multiplying CMOS Digital-to-Analog Converter, 0 to +70 degC, P-20A, Reel; Generic Part Number: AD7628; Manufacturer: Analog Devices; PartNumber: AD7628KP-REEL; # DAC Outputs: 2; Max V+: 15.75V; Op Pwr Diss: 37.5mW; Resolution (Bits): 8; Settling Time: 350ns; Single Supply: Yes; DatasheetVersion: Rev.A; PackageVersion: Nov-2002; PackageReference: P-20A; PackageDescription: 20-Lead Plastic Leaded Chip Carrier [PLCC]; Supplier 1: Digi-Key; Supplier Part Number 1: AD7628KP-REELTR-ND; Supplier 2: Digi-Key; Supplier Part Number 2: AD7628KP-REELCT-ND; Supplier 3: Digi-Key; Supplier Part Number 3: AD7628KP-REELDKR-ND; Supplier 4: Mouser; Supplier Part Number 4: 584-AD7628KP-R; Packing: Reel; RoHS: N; Mounting Technology: Surface Mount; Code_JEDEC: MO-047-AA; ComponentLink1Description: Manufacturer URL; ComponentLink1URL: http://www.analog.com/en/index.html; ComponentLink2Description: Datasheet; ComponentLink2URL: http://www.analog.com/static/imported-files/data_sheets/AD7628.pdf; ComponentLink3Description: Package Specification; ComponentLink3URL: http://www.analog.com/static/imported-files/packages/3121431516544404277643669223804694P20A.pdf; ComponentLink4Description: Product URL; ComponentLink4URL: http://www.analog.com/en/digital-to-analog-converters/da-converters/ad7628/products/product.html
footprint P-20A_N (Leaded Chip Carrier, 20-Leads, Body 9x9mm, Pitch 1.27mm, IPC Medium Density)
footprint P-20A_L (Leaded Chip Carrier, 20-Leads, Body 9x9mm, Pitch 1.27mm, IPC High Density)
footprint P-20A_M (Leaded Chip Carrier, 20-Leads, Body 9x9mm, Pitch 1.27mm, IPC Low Density)
pins: 1 AGND (power), 2 OUT A (out), 3 RFB A (in), 4 VREF A (in), 5 DGND (power), 6 ~{DAC A}/DAC B (in), 7 DB7 (MSB) (in), 8 DB6 (in), 9 DB5 (in), 10 DB4 (in), 11 DB3 (in), 12 DB2 (in), 13 DB1 (in), 14 DB0 (LSB) (in), 15 ~{CS} (in), 16 ~{WR} (in), 17 VDD (power), 18 VREF B (in), 19 RFB B (in), 20 OUT B (out)

## AD7628KPZ
designator U?
Dual 8-Bit Buffered Multiplying CMOS Digital-to-Analog Converter, 0 to +70 degC, P-20A, Pb-Free, Tube; Generic Part Number: AD7628; Manufacturer: Analog Devices; PartNumber: AD7628KPZ; # DAC Outputs: 2; Max V+: 15.75V; Op Pwr Diss: 37.5mW; Resolution (Bits): 8; Settling Time: 350ns; Single Supply: Yes; DatasheetVersion: Rev.A; PackageVersion: Nov-2002; PackageReference: P-20A; PackageDescription: 20-Lead Plastic Leaded Chip Carrier [PLCC]; Supplier 1: Digi-Key; Supplier Part Number 1: AD7628KPZ-ND; Supplier 2: Mouser; Supplier Part Number 2: 584-AD7628KPZ; Packing: Tube; RoHS: Y; Mounting Technology: Surface Mount; Code_JEDEC: MO-047-AA; ComponentLink1Description: Manufacturer URL; ComponentLink1URL: http://www.analog.com/en/index.html; ComponentLink2Description: Datasheet; ComponentLink2URL: http://www.analog.com/static/imported-files/data_sheets/AD7628.pdf; ComponentLink3Description: Package Specification; ComponentLink3URL: http://www.analog.com/static/imported-files/packages/3121431516544404277643669223804694P20A.pdf; ComponentLink4Description: Product URL; ComponentLink4URL: http://www.analog.com/en/digital-to-analog-converters/da-converters/ad7628/products/product.html
footprint P-20A_N (Leaded Chip Carrier, 20-Leads, Body 9x9mm, Pitch 1.27mm, IPC Medium Density)
footprint P-20A_L (Leaded Chip Carrier, 20-Leads, Body 9x9mm, Pitch 1.27mm, IPC High Density)
footprint P-20A_M (Leaded Chip Carrier, 20-Leads, Body 9x9mm, Pitch 1.27mm, IPC Low Density)
pins: 1 AGND (power), 2 OUT A (out), 3 RFB A (in), 4 VREF A (in), 5 DGND (power), 6 ~{DAC A}/DAC B (in), 7 DB7 (MSB) (in), 8 DB6 (in), 9 DB5 (in), 10 DB4 (in), 11 DB3 (in), 12 DB2 (in), 13 DB1 (in), 14 DB0 (LSB) (in), 15 ~{CS} (in), 16 ~{WR} (in), 17 VDD (power), 18 VREF B (in), 19 RFB B (in), 20 OUT B (out)

## AD7628KPZ-REEL
designator U?
Dual 8-Bit Buffered Multiplying CMOS Digital-to-Analog Converter, 0 to +70 degC, P-20A, Pb-Free, Reel; Generic Part Number: AD7628; Manufacturer: Analog Devices; PartNumber: AD7628KPZ-REEL; # DAC Outputs: 2; Max V+: 15.75V; Op Pwr Diss: 37.5mW; Resolution (Bits): 8; Settling Time: 350ns; Single Supply: Yes; DatasheetVersion: Rev.A; PackageVersion: Nov-2002; PackageReference: P-20A; PackageDescription: 20-Lead Plastic Leaded Chip Carrier [PLCC]; Supplier 1: Digi-Key; Supplier Part Number 1: AD7628KPZ-REEL-ND; Supplier 2: Mouser; Supplier Part Number 2: 584-AD7628KPZ-R; Packing: Reel; RoHS: Y; Mounting Technology: Surface Mount; Code_JEDEC: MO-047-AA; ComponentLink1Description: Manufacturer URL; ComponentLink1URL: http://www.analog.com/en/index.html; ComponentLink2Description: Datasheet; ComponentLink2URL: http://www.analog.com/static/imported-files/data_sheets/AD7628.pdf; ComponentLink3Description: Package Specification; ComponentLink3URL: http://www.analog.com/static/imported-files/packages/3121431516544404277643669223804694P20A.pdf; ComponentLink4Description: Product URL; ComponentLink4URL: http://www.analog.com/en/digital-to-analog-converters/da-converters/ad7628/products/product.html
footprint P-20A_N (Leaded Chip Carrier, 20-Leads, Body 9x9mm, Pitch 1.27mm, IPC Medium Density)
footprint P-20A_L (Leaded Chip Carrier, 20-Leads, Body 9x9mm, Pitch 1.27mm, IPC High Density)
footprint P-20A_M (Leaded Chip Carrier, 20-Leads, Body 9x9mm, Pitch 1.27mm, IPC Low Density)
pins: 1 AGND (power), 2 OUT A (out), 3 RFB A (in), 4 VREF A (in), 5 DGND (power), 6 ~{DAC A}/DAC B (in), 7 DB7 (MSB) (in), 8 DB6 (in), 9 DB5 (in), 10 DB4 (in), 11 DB3 (in), 12 DB2 (in), 13 DB1 (in), 14 DB0 (LSB) (in), 15 ~{CS} (in), 16 ~{WR} (in), 17 VDD (power), 18 VREF B (in), 19 RFB B (in), 20 OUT B (out)

## AD7628KRZ
designator U?
Dual 8-Bit Buffered Multiplying CMOS Digital-to-Analog Converter, 0 to +70 degC, RW-20, Pb-Free, Tube; Generic Part Number: AD7628; Manufacturer: Analog Devices; PartNumber: AD7628KRZ; # DAC Outputs: 2; Max V+: 15.75V; Op Pwr Diss: 37.5mW; Resolution (Bits): 8; Settling Time: 350ns; Single Supply: Yes; DatasheetVersion: Rev.A; PackageVersion: 060706-A; PackageReference: RW-20; PackageDescription: 20-Lead Standard Small Outline Package [SOIC_W] Wide Body; Supplier 1: Digi-Key; Supplier Part Number 1: AD7628KRZ-ND; Supplier 2: Farnell; Supplier Part Number 2: 1438615; Supplier 3: Newark; Supplier Part Number 3: 15P0822; Supplier 4: Newark; Supplier Part Number 4: 88H0011; Supplier 5: Mouser; Supplier Part Number 5: 584-AD7628KRZ; Packing: Tube; RoHS: Y; Mounting Technology: Surface Mount; Code_JEDEC: MS-013-AC; ComponentLink1Description: Manufacturer URL; ComponentLink1URL: http://www.analog.com/en/index.html; ComponentLink2Description: Datasheet; ComponentLink2URL: http://www.analog.com/static/imported-files/data_sheets/AD7628.pdf; ComponentLink3Description: Package Specification; ComponentLink3URL: http://www.analog.com/static/imported-files/packages/233848RW_20.pdf; ComponentLink4Description: Product URL; ComponentLink4URL: http://www.analog.com/en/digital-to-analog-converters/da-converters/ad7628/products/product.html
footprint RW-20_N (SOIC, 20-Leads, Body 12.8x7.5mm, Pitch 1.27mm, IPC Medium Density)
footprint RW-20_L (SOIC, 20-Leads, Body 12.8x7.5mm, Pitch 1.27mm, IPC High Density)
footprint RW-20_M (SOIC, 20-Leads, Body 12.8x7.5mm, Pitch 1.27mm, IPC Low Density)
pins: 1 AGND (power), 2 OUT A (out), 3 RFB A (in), 4 VREF A (in), 5 DGND (power), 6 ~{DAC A}/DAC B (in), 7 (MSB) DB7 (in), 8 DB6 (in), 9 DB5 (in), 10 DB4 (in), 11 DB3 (in), 12 DB2 (in), 13 DB1 (in), 14 DB0 (LSB) (in), 15 ~{CS} (in), 16 ~{WR} (in), 17 VDD (power), 18 VREF B (in), 19 RFB B (in), 20 OUT B (out)

## AD7628KRZ-REEL
designator U?
Dual 8-Bit Buffered Multiplying CMOS Digital-to-Analog Converter, 0 to +70 degC, RW-20, Pb-Free, Reel; Generic Part Number: AD7628; Manufacturer: Analog Devices; PartNumber: AD7628KRZ-REEL; # DAC Outputs: 2; Max V+: 15.75V; Op Pwr Diss: 37.5mW; Resolution (Bits): 8; Settling Time: 350ns; Single Supply: Yes; DatasheetVersion: Rev.A; PackageVersion: 060706-A; PackageReference: RW-20; PackageDescription: 20-Lead Standard Small Outline Package [SOIC_W] Wide Body; Supplier 1: Digi-Key; Supplier Part Number 1: AD7628KRZ-REEL-ND; Supplier 2: Newark; Supplier Part Number 2: 64M7555; Supplier 3: Mouser; Supplier Part Number 3: 584-AD7628KRZ-R; Packing: Reel; RoHS: Y; Mounting Technology: Surface Mount; Code_JEDEC: MS-013-AC; ComponentLink1Description: Manufacturer URL; ComponentLink1URL: http://www.analog.com/en/index.html; ComponentLink2Description: Datasheet; ComponentLink2URL: http://www.analog.com/static/imported-files/data_sheets/AD7628.pdf; ComponentLink3Description: Package Specification; ComponentLink3URL: http://www.analog.com/static/imported-files/packages/233848RW_20.pdf; ComponentLink4Description: Product URL; ComponentLink4URL: http://www.analog.com/en/digital-to-analog-converters/da-converters/ad7628/products/product.html
footprint RW-20_N (SOIC, 20-Leads, Body 12.8x7.5mm, Pitch 1.27mm, IPC Medium Density)
footprint RW-20_L (SOIC, 20-Leads, Body 12.8x7.5mm, Pitch 1.27mm, IPC High Density)
footprint RW-20_M (SOIC, 20-Leads, Body 12.8x7.5mm, Pitch 1.27mm, IPC Low Density)
pins: 1 AGND (power), 2 OUT A (out), 3 RFB A (in), 4 VREF A (in), 5 DGND (power), 6 ~{DAC A}/DAC B (in), 7 (MSB) DB7 (in), 8 DB6 (in), 9 DB5 (in), 10 DB4 (in), 11 DB3 (in), 12 DB2 (in), 13 DB1 (in), 14 DB0 (LSB) (in), 15 ~{CS} (in), 16 ~{WR} (in), 17 VDD (power), 18 VREF B (in), 19 RFB B (in), 20 OUT B (out)